# EAGLE library part DRV8811 (library texas-instruments)
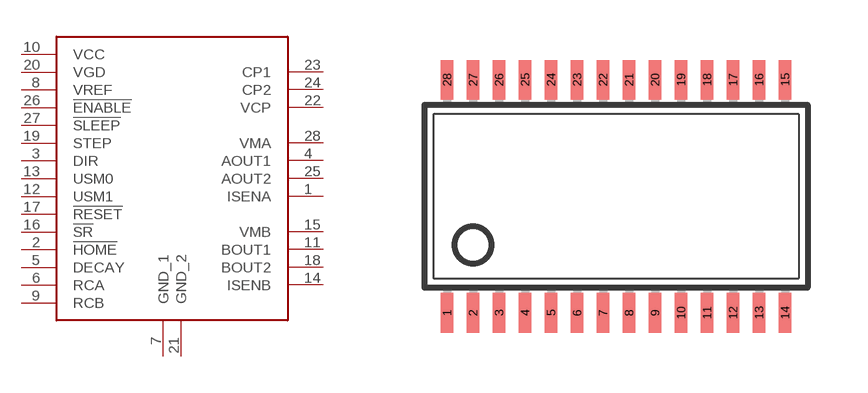
[diagram p2: symbol with the pads of TSSOP28; footprint TSSOP28]

Designator prefix -

## DRV8811  [TSSOP28]
1  ISENA
2  !HOME
3  DIR
4  AOUT1
5  DECAY
6  RCA
7  GND_1
8  VREF
9  RCB
10  VCC
11  BOUT1
12  USM1
13  USM0
14  ISENB
15  VMB
16  !SR
17  !RESET
18  BOUT2
19  STEP
20  VGD
21  GND_2
22  VCP
23  CP1
24  CP2
25  AOUT2
26  !ENABLE
27  !SLEEP
28  VMA

## Footprint TSSOP28 (pad centres in mm)
smd 0.305 x 0.991: 1 -4.225,-2.918; 2 -3.575,-2.918; 3 -2.925,-2.918; 4 -2.275,-2.918; 5 -1.625,-2.918; 6 -0.975,-2.918; 7 -0.325,-2.918; 8 0.325,-2.918; 9 0.975,-2.918; 10 1.625,-2.918; 11 2.275,-2.918; 12 2.925,-2.918; 13 3.575,-2.918; 14 4.225,-2.918; 15 4.225,2.918; 16 3.575,2.918; 17 2.925,2.918; 18 2.275,2.918; 19 1.625,2.918; 20 0.975,2.918; 21 0.325,2.918; 22 -0.325,2.918; 23 -0.975,2.918; 24 -1.625,2.918; 25 -2.275,2.918; 26 -2.925,2.918; 27 -3.575,2.918; 28 -4.225,2.918